# Altium footprint library connectors.PcbLib: 44 footprints (part 2 of 3)
Each footprint in its own frame and in the unit in brackets; x right, y up, seen from the top. Pads: shape width x height; smd on the part's side, far side on the other; paste and mask are expansions set on the pad; w line width, h text height; cw(c..) or ccw(c..) is an arc to the next point about the centre after c.
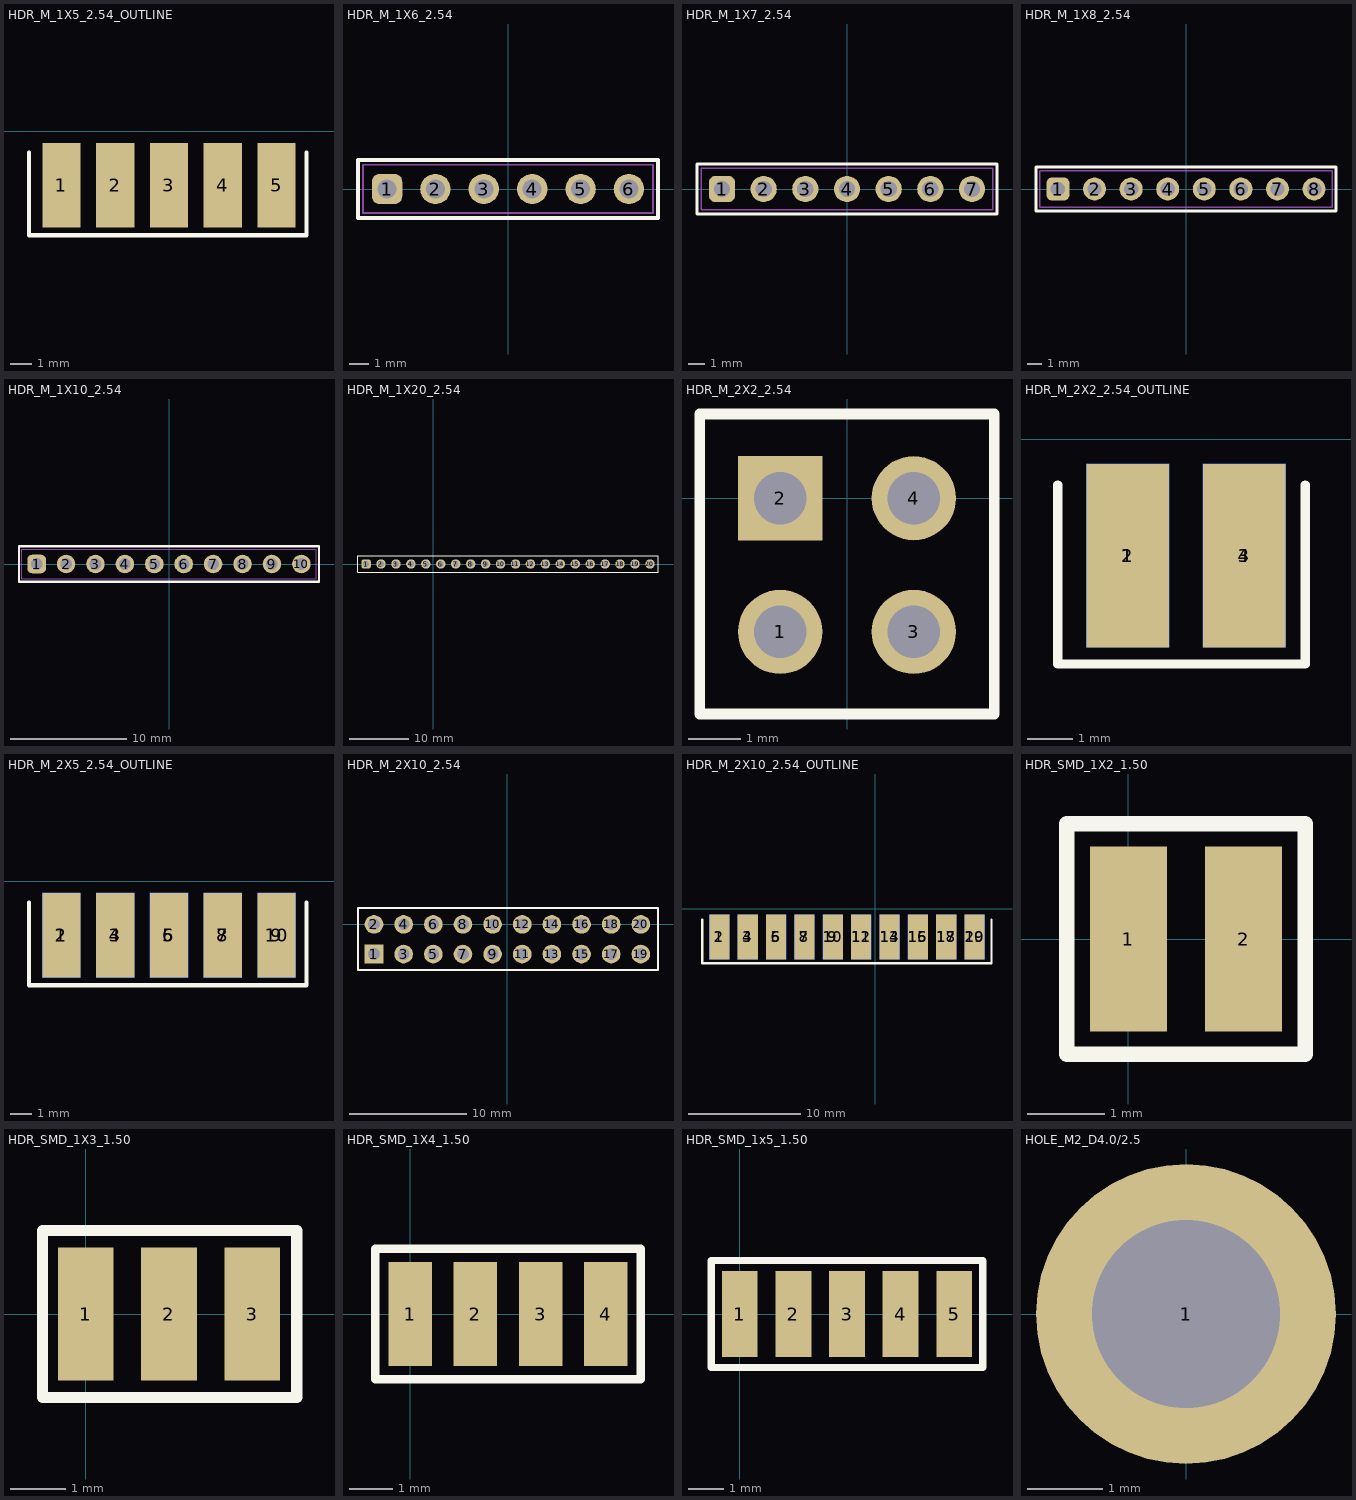
[diagram p1: the footprints below, top view; thin cyan lines are the x and y axes]

## HDR_M_1X5_2.54_OUTLINE [mm] "Pitch 2.54"
height 8.5
pads (5):
  rect 1.8x4 smd mask+0: 1(-13.97,-2.54) 2(-11.43,-2.54) 3(-8.89,-2.54) 4(-6.35,-2.54) 5(-3.81,-2.54)
Top Overlay:
  lines w0.2: -15.494,-1 -15.494,-4.9 -2.4,-4.9 -2.4,-1
3D body "HEADER_1x5_2.54.stp": height 1.67, standoff -0.87, extent -15.3,-3 -2.6,8.54

## HDR_M_1X6_2.54 [mm] "Pitch 2.54"
height 8.5
pads (6):
  rrect50% 1.6x1.6 hole 1: 1(-6.35,0)
  round 1.6 hole 1: 2(-3.81,0) 3(-1.27,0) 4(1.27,0) 5(3.81,0) 6(6.35,0)
Top Overlay:
  lines w0.2: -7.874,-1.524 -7.874,1.524 7.874,1.524 7.874,-1.524 -7.874,-1.524
M11-PKG:
  lines w0.1: -7.62,1.27 -7.62,-1.27 7.62,-1.27 7.62,1.275 -7.62,1.275
3D body: height 3, standoff -3, extent -1.52,-0.25 -1.02,0.25
3D body: height 3, standoff -3, extent -4.06,-0.25 -3.56,0.25
3D body: height 3, standoff -3, extent -6.6,-0.25 -6.1,0.25
3D body: height 3, standoff -3, extent 6.1,-0.25 6.6,0.25
3D body: height 3, standoff -3, extent 3.56,-0.25 4.06,0.25
3D body: height 3, standoff -3, extent 1.02,-0.25 1.52,0.25
3D body "HEADER_1x6_2.54.stp": height 8.54, standoff -3, extent -7.62,-1.27 7.62,1.27

## HDR_M_1X7_2.54 [mm] "Pitch 2.54"
height 8.5
pads (7):
  rrect50% 1.6x1.6 hole 1: 1(-7.62,0)
  round 1.6 hole 1: 2(-5.08,0) 3(-2.54,0) 4(0,0) 5(2.54,0) 6(5.08,0) 7(7.62,0)
Top Overlay:
  lines w0.2: -9.144,-1.524 9.144,-1.524 9.144,1.524 -9.144,1.524 -9.144,-1.524
M11-PKG:
  lines w0.1: -8.89,1.27 -8.89,-1.27 8.89,-1.27 8.89,1.275 -8.89,1.275
3D body "HEADER_1x7_2.54.stp": height 8.54, standoff -3, extent -8.89,-1.27 8.89,1.27

## HDR_M_1X8_2.54 [mm] "Pitch 2.54"
height 8.5
pads (8):
  rrect50% 1.6x1.6 hole 1: 1(-8.89,0)
  round 1.6 hole 1: 2(-6.35,0) 3(-3.81,0) 4(-1.27,0) 5(1.27,0) 6(3.81,0) 7(6.35,0) 8(8.89,0)
Top Overlay:
  lines w0.2: -10.414,-1.524 10.414,-1.524 10.414,1.524 -10.414,1.524 -10.414,-1.524
M11-PKG:
  lines w0.1: -10.16,1.27 -10.16,-1.27 10.16,-1.27 10.16,1.275 -10.16,1.275
3D body "HEADER_1x8_2.54.stp": height 8.54, standoff -3, extent -10.16,-1.27 10.16,1.27

## HDR_M_1X10_2.54 [mm] "Pitch 2.54"
height 8.5
pads (10):
  rrect50% 1.6x1.6 hole 1: 1(-11.43,0)
  round 1.6 hole 1: 2(-8.89,0) 3(-6.35,0) 4(-3.81,0) 5(-1.27,0) 6(1.27,0) 7(3.81,0) 8(6.35,0) 9(8.89,0) 10(11.43,0)
Top Overlay:
  lines w0.2: -12.954,-1.524 12.954,-1.524 12.954,1.524 -12.954,1.524 -12.954,-1.524
M11-PKG:
  lines w0.1: -12.7,1.27 -12.7,-1.27 12.7,-1.27 12.7,1.275 -12.7,1.275
3D body "HEADER_1x10_2.54.stp": height 8.54, standoff -3, extent -12.7,-1.27 12.7,1.27
3D body: height 0, standoff -3, extent 11.18,-0.25 11.68,0.25
3D body: height 0, standoff -3, extent 8.64,-0.25 9.14,0.25
3D body: height 0, standoff -3, extent 6.1,-0.25 6.6,0.25
3D body: height 0, standoff -3, extent 3.56,-0.25 4.06,0.25
3D body: height 0, standoff -3, extent -4.06,-0.25 -3.56,0.25
3D body: height 0, standoff -3, extent -1.52,-0.25 -1.02,0.25
3D body: height 0, standoff -3, extent 1.02,-0.25 1.52,0.25
3D body: height 0, standoff -3, extent -11.68,-0.25 -11.18,0.25
3D body: height 0, standoff -3, extent -9.14,-0.25 -8.64,0.25
3D body: height 0, standoff -3, extent -6.6,-0.25 -6.1,0.25

## HDR_M_1X20_2.54 [mm] "Pitch 2.54"
height 8.5
pads (20):
  rrect50% 1.6x1.6 hole 1: 1(-11.43,0)
  round 1.6 hole 1: 2(-8.89,0) 3(-6.35,0) 4(-3.81,0) 5(-1.27,0) 6(1.27,0) 7(3.81,0) 8(6.35,0) 9(8.89,0) 10(11.43,0) 11(13.97,0) 12(16.51,0) 13(19.05,0) 14(21.59,0) 15(24.13,0) 16(26.67,0) 17(29.21,0) 18(31.75,0) 19(34.29,0) 20(36.83,0)
Top Overlay:
  lines w0.2: -12.8,-1.4 38.2,-1.4 38.2,1.4 -12.8,1.4 -12.8,-1.4
3D body "HEADER_1x10_2.54.stp": height 8.54, standoff -3, extent -12.7,-1.27 12.7,1.27
3D body "HEADER_1x10_2.54.stp": height 8.54, standoff -3, extent 12.7,-1.27 38.1,1.27

## HDR_M_2X2_2.54 [mm] "Pitch 2.54"
height 8.5
pads (4):
  round 1.6 hole 1: 1(-1.27,-2.54) 3(1.27,-2.54) 4(1.27,0)
  rect 1.6x1.6 hole 1: 2(-1.27,0)
Top Overlay:
  lines w0.2: -2.8,-4.1 -2.8,1.6 2.8,1.6 2.8,-4.1 -2.8,-4.1
3D body "HEADER_1x2_2.54.stp": height 8.54, standoff -3, extent -2.54,-1.27 2.54,1.27
3D body "HEADER_1x2_2.54.stp": height 8.54, standoff -3, extent -2.54,-3.81 2.54,-1.27

## HDR_M_2X2_2.54_OUTLINE [mm] "Pitch 2.54"
height 8.5
pads (4):
  rect 1.8x4 smd mask+0: 1(-13.97,-2.54) 3(-11.43,-2.54)
  rect 1.8x4 smd far side mask+0: 2(-13.97,-2.54) 4(-11.43,-2.54)
Top Overlay:
  lines w0.2: -15.494,-1 -15.494,-4.9 -10.1,-4.9 -10.1,-1
3D body "HEADER_1x2_2.54.stp": height -0.87, standoff -3.41, extent -15.3,-3 -10.22,8.54
3D body "HEADER_1x2_2.54.stp": height 1.67, standoff -0.87, extent -15.3,-3 -10.22,8.54

## HDR_M_2X5_2.54_OUTLINE [mm] "Pitch 2.54"
height 8.5
pads (10):
  rect 1.8x4 smd mask+0: 1(-13.97,-2.54) 3(-11.43,-2.54) 5(-8.89,-2.54) 7(-6.35,-2.54) 9(-3.81,-2.54)
  rect 1.8x4 smd far side mask+0: 2(-13.97,-2.54) 4(-11.43,-2.54) 6(-8.89,-2.54) 8(-6.35,-2.54) 10(-3.81,-2.54)
Top Overlay:
  lines w0.2: -15.494,-1 -15.494,-4.9 -2.4,-4.9 -2.4,-1
3D body "HEADER_1x5_2.54.stp": height 1.67, standoff -0.87, extent -15.3,-3 -2.6,8.54
3D body "HEADER_1x5_2.54.stp": height -0.87, standoff -3.41, extent -15.3,-3 -2.6,8.54

## HDR_M_2X10_2.54 [mm] "Pitch 2.54"
height 8.5
pads (20):
  rect 1.6x1.6 hole 1: 1(-11.43,-2.54)
  round 1.6 hole 1: 2(-11.43,0) 3(-8.89,-2.54) 4(-8.89,0) 5(-6.35,-2.54) 6(-6.35,0) 7(-3.81,-2.54) 8(-3.81,0) 9(-1.27,-2.54) 10(-1.27,0) 11(1.27,-2.54) 12(1.27,0) 13(3.81,-2.54) 14(3.81,0) 15(6.35,-2.54) 16(6.35,0) 17(8.89,-2.54) 18(8.89,0) 19(11.43,-2.54) 20(11.43,0)
Top Overlay:
  lines w0.2: -12.8,-3.9 12.9,-3.9 12.9,1.4 -12.8,1.4 -12.8,-3.9
3D body "HEADER_1x10_2.54.stp": height 8.54, standoff -3, extent -12.7,-3.81 12.7,-1.27
3D body "HEADER_1x10_2.54.stp": height 8.54, standoff -3, extent -12.7,-1.27 12.7,1.27

## HDR_M_2X10_2.54_OUTLINE [mm] "Pitch 2.54"
height 8.5
pads (20):
  rect 1.8x4 smd mask+0: 1(-13.97,-2.54) 3(-11.43,-2.54) 5(-8.89,-2.54) 7(-6.35,-2.54) 9(-3.81,-2.54) 11(-1.27,-2.54) 13(1.27,-2.54) 15(3.81,-2.54) 17(6.35,-2.54) 19(8.89,-2.54)
  rect 1.8x4 smd far side mask+0: 2(-13.97,-2.54) 4(-11.43,-2.54) 6(-8.89,-2.54) 8(-6.35,-2.54) 10(-3.81,-2.54) 12(-1.27,-2.54) 14(1.27,-2.54) 16(3.81,-2.54) 18(6.35,-2.54) 20(8.89,-2.54)
Top Overlay:
  lines w0.2: -15.494,-1 -15.494,-4.9 10.4,-4.9 10.4,-1
3D body "HEADER_1x10_2.54.stp": height -0.87, standoff -3.41, extent -15.3,-3 10.1,8.54
3D body "HEADER_1x10_2.54.stp": height 1.67, standoff -0.87, extent -15.3,-3 10.1,8.54

## HDR_SMD_1X2_1.50 [mm] "Pitch 1.50"
height 8.5
pads (2):
  rect 1x2.4 smd mask+0: 1(0,0) 2(1.5,0)
Top Overlay:
  lines w0.2: -0.8,-1.5 -0.8,1.5 2.3,1.5 2.3,-1.5 -0.8,-1.5

## HDR_SMD_1X3_1.50 [mm] "Pitch 1.50"
height 8.5
pads (3):
  rect 1x2.4 smd mask+0: 1(0,0) 2(1.5,0) 3(3,0)
Top Overlay:
  lines w0.2: -0.775,-1.5 3.8,-1.5 3.8,1.5 -0.775,1.5 -0.775,-1.5

## HDR_SMD_1X4_1.50 [mm] "Pitch 1.50"
height 8.5
pads (4):
  rect 1x2.4 smd mask+0: 1(0,0) 2(1.5,0) 3(3,0) 4(4.5,0)
Top Overlay:
  lines w0.2: -0.8,-1.5 -0.8,1.5 5.3,1.5 5.3,-1.5 -0.8,-1.5

## HDR_SMD_1x5_1.50 [mm] "Pitch 1.50"
height 8.5
pads (5):
  rect 1x2.4 smd mask+0: 1(0,0) 2(1.5,0) 3(3,0) 4(4.5,0) 5(6,0)
Top Overlay:
  lines w0.2: -0.8,-1.5 6.8,-1.5 6.8,1.5 -0.8,1.5 -0.8,-1.5

## HOLE_M2_D4.0/2.5 [mm]
pads (1):
  round 4 hole 2.5: 1(0,0)